# EAGLE library part WE-TVS_SOT23-6L (library Wuerth_Elektronik_eiSos_ v6.0)
TVS Diode Array WE-TVS - Low capazity - No leakage current - Low clamping voltage - high ESD voltage protection - Uni- and bidirectional protection -- USB 2.0 -- IEEE1394 -- LAN 1GBit -- DVI -- HDMI
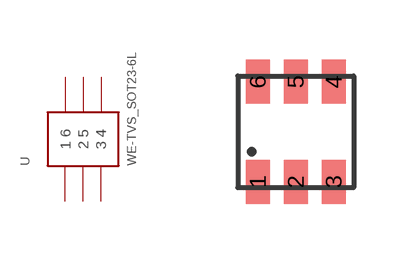
[diagram p40: symbol with the pads of WE-TVS_SOT23-6L; footprint WE-TVS_SOT23-6L]

Designator prefix -

## WE-TVS_SOT23-6L  [WE-TVS_SOT23-6L]
1  1  pas
2  2  pas
3  3  pas
4  4  pas
5  5  pas
6  6  pas

## Footprint WE-TVS_SOT23-6L (pad centres in mm)
TVS Diode Array WE-TVS
smd 0.6 x 1.1: 1 -0.95,-1.25; 2 0,-1.25; 3 0.95,-1.25; 4 0.95,1.25; 5 0,1.25; 6 -0.95,1.25